# Altium integrated library C3131.IntLib: 1 symbol
Pins are listed as number, name and electrical type; pins without a type are passive.

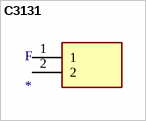
[diagram p0: symbol C3131]

## C3131
designator F
footprint C3131
pins: 1, 2